# Altium schematic symbol library 22-28-4044.SchLib: 1 symbol
Pins are listed as number, name and electrical type; pins without a type are passive.

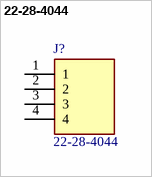
[diagram p0: symbol 22-28-4044]

## 22-28-4044
designator J?
Headers & Wire Housings 4P VERT HDR 15u Au; Manufacturer_Name: Molex; Geometry.Height: 10.67mm; Mouser Part Number: 538-22-28-4044; Mouser Price/Stock: https://www.mouser.com/Search/Refine.aspx?Keyword=538-22-28-4044; Manufacturer_Part_Number: 22-28-4044; Datasheet Link: https://componentsearchengine.com/Datasheets/1/22-28-4044.pdf
footprint HDRV4W66P0X254_1X4_1016X249X1067P
pins: 1, 2, 3, 4